# Altium footprint library PCB1.PCBLIB: 35 footprints (part 2 of 3)
Each footprint in its own frame and in the unit in brackets; x right, y up, seen from the top. Pads: shape width x height; smd on the part's side, far side on the other; paste and mask are expansions set on the pad; w line width, h text height; cw(c..) or ccw(c..) is an arc to the next point about the centre after c.
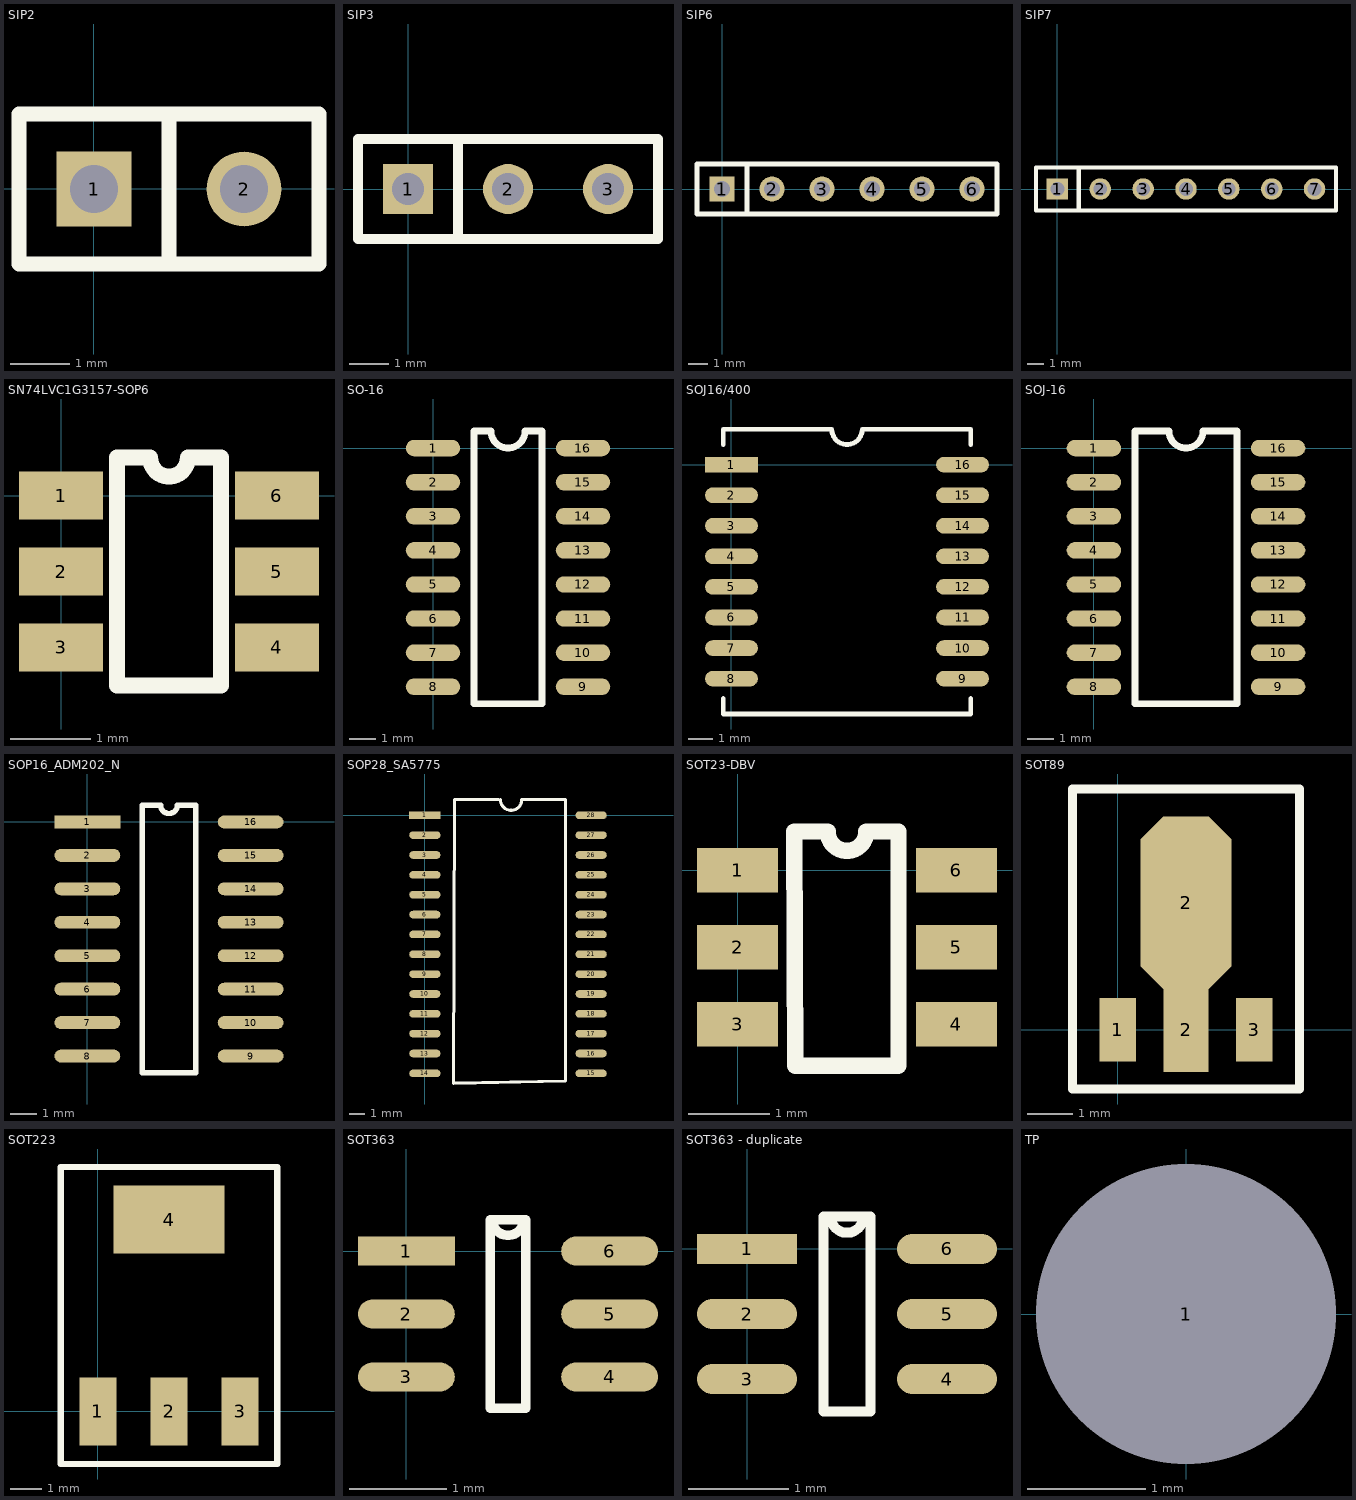
[diagram p1: the footprints below, top view; thin cyan lines are the x and y axes]

## SIP2 [mil]
pads (2):
  rect 50x50 hole 32: 1(0,-0.04)
  round 50 hole 32: 2(100,-0.04)
TopOverlay:
  lines w10: 50,-50.04 50,49.96 ; -50,-50.04 150,-50.04 150,49.96 -50,49.96 -50,-50.04

## SIP3 [mil]
pads (3):
  rect 50x50 hole 32: 1(0,0)
  round 50 hole 32: 2(100,0) 3(200,0)
TopOverlay:
  lines w10: 50,-50 50,50 ; -50,-50 250,-50 250,50 -50,50 -50,-50

## SIP6 [mil]
pads (6):
  rect 50x50 hole 32: 1(0,0)
  round 50 hole 32: 2(100,0) 3(200,0) 4(300,0) 5(400,0) 6(500,0)
TopOverlay:
  lines w10: 50,-50 50,50 ; -50,-50 -50,50 550,50 550,-50 -50,-50

## SIP7 [mil]
pads (7):
  rect 50x50 hole 32: 1(0,0)
  round 50 hole 32: 2(100,0) 3(200,0) 4(300,0) 5(400,0) 6(500,0) 7(600,0)
TopOverlay:
  lines w10: 50,-50 50,50 ; -50,-50 650,-50 650,50 -50,50 -50,-50

## SN74LVC1G3157-SOP6 [mm] "SOP6"
pads (6):
  rect 1.05x0.6 smd: 1(0,0) 2(0,-0.95) 3(0,-1.9) 4(2.7,-1.9) 5(2.7,-0.95) 6(2.7,0)
TopOverlay:
  lines w0.2: 0.7,-2.375 0.7,0.475 1.112,0.475 ccw(c1.35,0.475) 1.587,0.475 2,0.475 2,-2.375 0.7,-2.375

## SO-16 [mil]
pads (16):
  oval 80x24 smd: 1(0,0) 2(0,-50) 3(0,-100) 4(0,-150) 5(0,-200) 6(0,-250) 7(0,-300) 8(0,-350) 9(220,-350) 10(220,-300) 11(220,-250) 12(220,-200) 13(220,-150) 14(220,-100) 15(220,-50) 16(220,0)
TopOverlay:
  lines w10: 60,-375 160,-375 160,25 135,25 cw(c110,25) 85,25 60,25 60,-375

## SOJ16/400 [mm]
pads (16):
  rect 2.2x0.65 smd: 1(0,0)
  oval 2.2x0.65 smd: 2(0,-1.27) 3(0,-2.54) 4(0,-3.81) 5(0,-5.08) 6(0,-6.35) 7(0,-7.62) 8(0,-8.89) 9(9.6,-8.89) 10(9.6,-7.62) 11(9.6,-6.35) 12(9.6,-5.08) 13(9.6,-3.81) 14(9.6,-2.54) 15(9.6,-1.27) 16(9.6,0)
TopOverlay:
  lines w0.2: -0.345,-9.715 -0.345,-10.36 9.945,-10.36 9.945,-9.715 ; -0.345,0.825 -0.345,1.47 4.165,1.47 ccw(c4.8,1.47) 5.435,1.47 9.945,1.47 9.945,0.825

## SOJ-16 [mil]
pads (16):
  oval 80x24 smd: 1(0,0) 2(0,-50) 3(0,-100) 4(0,-150) 5(0,-200) 6(0,-250) 7(0,-300) 8(0,-350) 9(270,-350) 10(270,-300) 11(270,-250) 12(270,-200) 13(270,-150) 14(270,-100) 15(270,-50) 16(270,0)
TopOverlay:
  lines w10: 60,-375 60,25 110,25 ccw(c135,25) 160,25 210,25 210,-375 60,-375

## SOP16_ADM202_N [mm] "ADM202EARNZ-REEL"
height 1.75
pads (16):
  rect 2.5x0.49 smd: 1(0,0)
  oval 2.5x0.49 smd: 2(0,-1.27) 3(0,-2.54) 4(0,-3.81) 5(0,-5.08) 6(0,-6.35) 7(0,-7.62) 8(0,-8.89) 9(6.2,-8.89) 10(6.2,-7.62) 11(6.2,-6.35) 12(6.2,-5.08) 13(6.2,-3.81) 14(6.2,-2.54) 15(6.2,-1.27) 16(6.2,0)
TopOverlay:
  lines w0.2: 2.085,-9.525 4.115,-9.525 4.115,0.635 3.417,0.635 cw(c3.1,0.635) 2.782,0.635 2.085,0.635 2.085,-9.525

## SOP28_SA5775 [mm]
pads (28):
  rect 2x0.49 smd: 1(0,0)
  oval 2x0.49 smd: 2(0,-1.27) 3(0,-2.54) 4(0,-3.81) 5(0,-5.08) 6(0,-6.35) 7(0,-7.62) 8(0,-8.89) 9(0,-10.16) 10(0,-11.43) 11(0,-12.7) 12(0,-13.97) 13(0,-15.24) 14(0,-16.51) 15(10.636,-16.51) 16(10.636,-15.24) 17(10.636,-13.97) 18(10.636,-12.7) 19(10.636,-11.43) 20(10.636,-10.16) 21(10.636,-8.89) 22(10.636,-7.62) 23(10.636,-6.35) 24(10.636,-5.08) 25(10.636,-3.81) 26(10.636,-2.54) 27(10.636,-1.27) 28(10.636,0)
TopOverlay:
  lines w0.2: 4.7,1 1.9,1 1.835,-17.145 9,-17 9,-8 9,1 6.2,1 cw(c5.517,1) 4.835,1

## SOT23-DBV [mm] "SPDT Analogue Switch"
height 1.45
pads (6):
  rect 1x0.55 smd: 1(0,0) 2(0,-0.95) 3(0,-1.9) 4(2.7,-1.9) 5(2.7,-0.95) 6(2.7,0)
TopOverlay:
  lines w0.2: 1.981,-2.413 0.711,-2.413 0.7,0.475 1.112,0.475 ccw(c1.35,0.475) 1.587,0.475 1.984,0.475 1.984,-2.375

## SOT89 [mm]
pads (4):
  rect 0.8x1.4 smd: 1(0,0) 3(3,0)
  rect 1x1.854 smd: 2(1.5,0)
  oct 2x3.8 smd: 2(1.5,2.8)
TopOverlay:
  lines w0.2: -1,-1.3 -1,5.3 4,5.3 4,-1.3 -1,-1.3

## SOT223 [mm]
pads (4):
  rect 1.2x2.2 smd: 1(0,0) 2(2.3,0) 3(4.6,0)
  rect 3.6x2.2 smd: 4(2.3,6.2)
TopOverlay:
  lines w0.2: -1.2,-1.7 -1.2,7.9 5.8,7.9 5.8,-1.7 -1.2,-1.7

## SOT363 [mm]
pads (6):
  rect 1x0.3 smd: 1(0,0)
  oval 1x0.3 smd: 2(0,-0.65) 3(0,-1.3) 4(2.1,-1.3) 5(2.1,-0.65) 6(2.1,0)
TopOverlay:
  lines w0.1: 0.865,-1.625 1.235,-1.625 1.235,0.325 0.888,0.325 ccw(c1.05,0.325) 1.212,0.325 0.865,0.325 0.865,-1.625

## SOT363 - duplicate [mm]
pads (6):
  rect 1x0.3 smd: 1(0,0)
  oval 1x0.3 smd: 2(0,-0.65) 3(0,-1.3) 4(2,-1.3) 5(2,-0.65) 6(2,0)
TopOverlay:
  lines w0.1: 0.765,-1.625 0.765,0.325 1.162,0.325 cw(c1,0.325) 0.838,0.325 1.235,0.325 1.235,-1.625 0.765,-1.625

## TP [mm]
pads (1):
  round 1.27 hole 2.54: 1(0,0)